# Altium schematic symbol library LM117.SchLib: 1 symbol
Pins are listed as number, name and electrical type; pins without a type are passive.

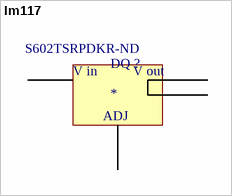
[diagram p0: symbol lm117]

## lm117
designator DQ ?  Supplier Part Number 1: S602TSRPDKR-ND
Supplier 1: Digi-Key
footprint SOT223_M (SOT223, 4-Leads, Body 6.5x3.5mm, Pitch 2.3mm, Lead Span 7mm, IPC Low Density)
pins: 1, 2, 3, 4
text: V in; V out; ADJ